# Altium schematic symbol library PH2.0-2P_2021-08-20.SCHLIB: 1 symbol
Pins are listed as number, name and electrical type; pins without a type are passive.

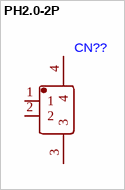
[diagram p0: symbol PH2.0-2P]

## PH2.0-2P
designator CN??
footprint CONN-SMD_PH2.0-1X2PW
pins: 1, 2, 3, 4